# EAGLE library part 1X10 (library CougsInSpace-Connectors)
Generic Connector - 10 Conductor
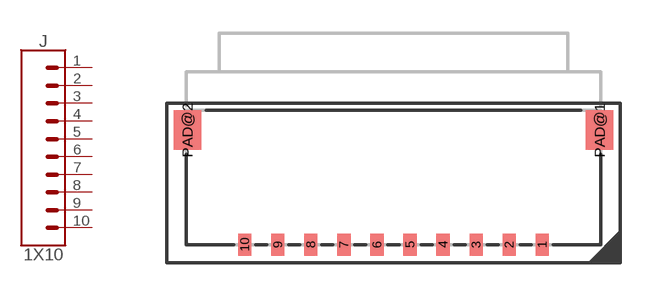
[diagram p0: symbol with the pads of PICOLOCK1.5-10; footprint PICOLOCK1.5-10]

Designator prefix J

## 1X10-PICOLOCK (PACKAGE: PicoLock; SKU: 04-0003)  [PICOLOCK1.5-10]
1  1  pas
2  2  pas
3  3  pas
4  4  pas
5  5  pas
6  6  pas
7  7  pas
8  8  pas
9  9  pas
10  10  pas

## Footprint PICOLOCK1.5-10 (pad centres in mm)
PicoLock 1.5mm - 10 Conductor
smd 0.6 x 1: 1 6.75,0; 2 5.25,0; 3 3.75,0; 4 2.25,0; 5 0.75,0; 6 -0.75,0; 7 -2.25,0; 8 -3.75,0; 9 -5.25,0; 10 -6.75,0
smd 1.25 x 1.8: PAD@1 9.355,5.2; PAD@2 -9.355,5.2